# EAGLE library part 533980871 (library 533980871)
Check availability <https://pricing.snapeda.com/parts/53398-0871/Molex/view-part?ref=eda>
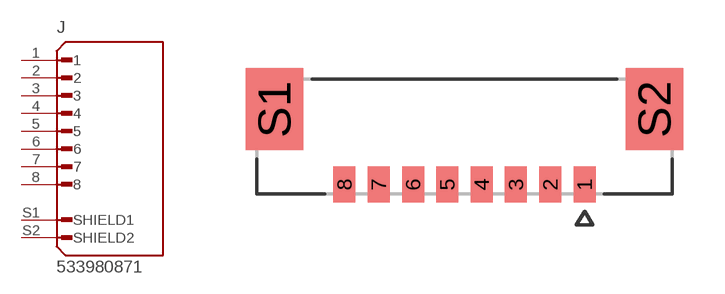
[diagram p0: symbol with the pads of MOLEX_533980871; footprint MOLEX_533980871]

Designator prefix J

## 533980871 (AVAILABILITY: In Stock; CHECK_PRICES: https://www.snapeda.com/parts/53398-0871/Molex/view-part/?ref=eda; DESCRIPTION: Conn; Rect; Header; 1.25 mm Pitch; PCB; 8 Cir; Ver; SMT; PicoBlade; LF | Molex Incorporated 53398-0871; MF: Molex; MP: 53398-0871; PACKAGE: None; PRICE: None; SNAPEDA_LINK: https://www.snapeda.com/parts/53398-0871/Molex/view-part/?ref=snap)  [MOLEX_533980871]
1  1  pas
2  2  pas
3  3  pas
4  4  pas
5  5  pas
6  6  pas
7  7  pas
8  8  pas
S1  SHIELD1  pas
S2  SHIELD2  pas

## Footprint MOLEX_533980871 (pad centres in mm)
smd 0.8 x 1.3: 1 4.375,-1.75; 2 3.125,-1.75; 3 1.875,-1.75; 4 0.625,-1.75; 5 -0.625,-1.75; 6 -1.875,-1.75; 7 -3.125,-1.75; 8 -4.375,-1.75
smd 2.1 x 3: S1 -6.925,1; S2 6.925,1